# EAGLE library part MF06 (library MRDT-Connectors)
Micro-Fit 3.0 6-pin connector
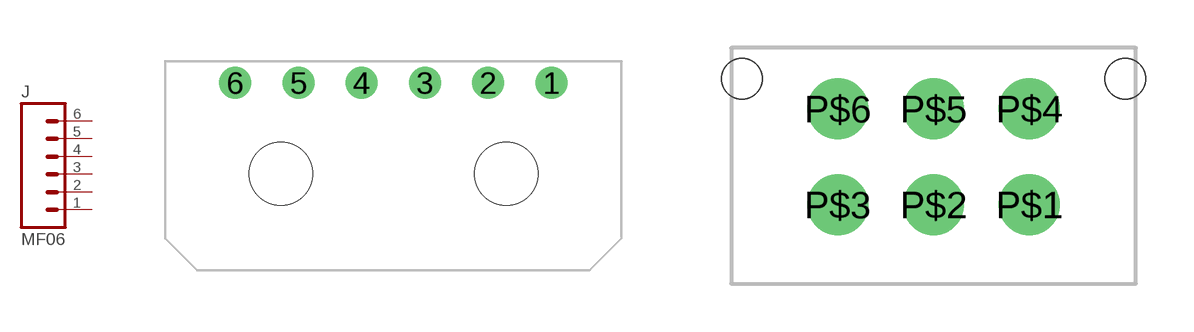
[diagram p0: symbol with the pads of MOLEX_0436500600; footprints MOLEX_0436500600, MOLEX_0430450627]

Designator prefix J

## MF061X6HORIZ  [MOLEX_0436500600]
1  1  pas
2  2  pas
3  3  pas
4  4  pas
5  5  pas
6  6  pas

## MF062X3VERT  [MOLEX_0430450627]
P$1  1  pas
P$2  2  pas
P$3  3  pas
P$4  4  pas
P$5  5  pas
P$6  6  pas

## Footprint MOLEX_0436500600 (pad centres in mm)
drill 1.016: 1 18.313,8.89; 2 15.316,8.89; 3 12.319,8.89; 4 9.322,8.89; 5 6.325,8.89; 6 3.327,8.89
hole 2.997 at 5.486,4.572
hole 2.997 at 16.18,4.572

## Footprint MOLEX_0430450627 (pad centres in mm)
drill 1.27: P$1 9.322,2.464; P$2 6.325,2.464; P$3 3.327,2.464; P$4 9.322,5.461; P$5 6.325,5.461; P$6 3.327,5.461
hole 1.27 at 12.319,6.401
hole 1.27 at 0.33,6.401